# Altium schematic symbol library MF-FSMF010X-2.SchLib: 1 symbol
Pins are listed as number, name and electrical type; pins without a type are passive.

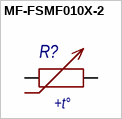
[diagram p0: symbol MF-FSMF010X-2]

## MF-FSMF010X-2
designator R?
pins: 1, 2
text: +t°